# Altium schematic symbol library Capacitors.SchLib: 17 symbols
Pins are listed as number, name and electrical type; pins without a type are passive.

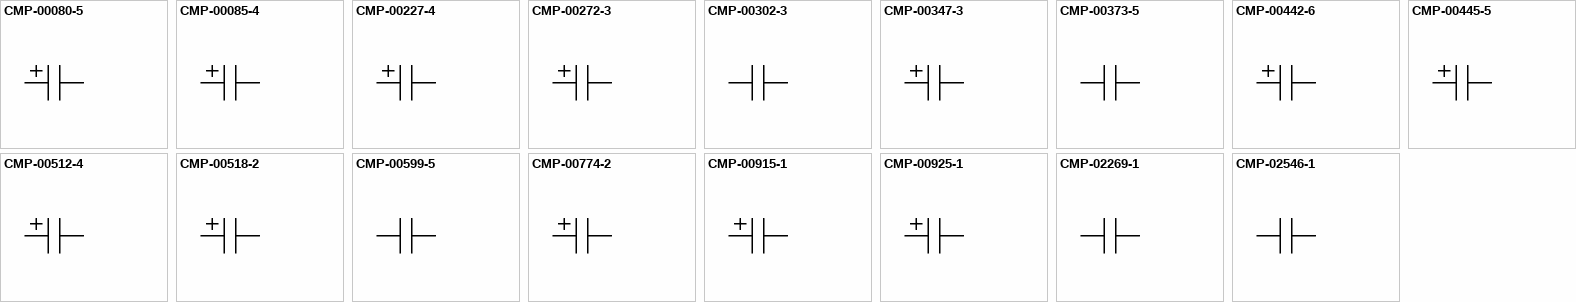
[diagram p0: symbols CMP-00080-5 to CMP-02546-1]

## CMP-00080-5
designator C?, comment C475
C 4.7uF x 16V; Component Name: Tantalum Capacitor, SMD, Case A, 4.7uF 16V; Value: 4.7uF 16V; Package: Case A; Marking: C475
footprint Case A
pins: 1, 2

## CMP-00085-4
designator C?, comment V475
C 4.7uF x 35V; Component Name: Tantalum Capacitor, SMD, Case B, 4.7uF 35V; Value: 4.7uF 35V; Package: Case B; Marking: V475
footprint Case B
pins: 1, 2

## CMP-00227-4
designator C?, comment 47uF x 50V
C 47uF x 50V; Component Name: Capacitor electrolytic, 47uF x 50V, 6x11x2,5; Package: 6x11x2,5; Marking: 47uF x 50V; Value: 47uF x 50V
footprint 6x11x2.5
pins: 1, 2

## CMP-00272-3
designator C?, comment 475J
C 4.7uF x 6.3V; Component Name: Tantalum Capacitor, SMD, Case R, 4.7uF 6.3V; Value: 4.7uF 6.3V; Package: Case R; Marking: 475J
footprint Case R
pins: 1, 2

## CMP-00302-3
designator C?
PAD; Component Name: PAD; Package: 0603
footprint Cap 0603
pins: 1, 2

## CMP-00347-3
designator C?, comment 22 25V
C 22uF x 25V; Component Name: Tantalum Capacitor, SMD, Case D, 22uF 25V; Value: 22uF 25V; Package: Case D; Marking: 22 25V
footprint Case D
pins: 1, 2

## CMP-00373-5
designator C?, comment PAD
Component Name: PAD; Package: 0805; Marking: PAD; Value: PAD; Voltage: PAD
pins: 1, 2

## CMP-00442-6
designator C?, comment 22uF x 100V
C 22uF x 100V; Component Name: Capacitor electrolytic, 22uF x 100V, 8x12x3.5; Package: 8x12x3.5; Marking: 22uF x 100V; Value: 22uF x 100V
footprint CE 8x12x3.5
footprint CE 8x12x3.5 R
footprint CE 8x12x3.5 L
pins: 1, 2

## CMP-00445-5
designator C?, comment 10uF x 400V
C 10uF x 400V; Component Name: Capacitor electrolytic, 10uF x 400V, 13x21x5; Package: 13x21x5; Marking: 10uF x 400V; Value: 10uF x 400V
footprint 13x21x5
footprint 13x21x5 26mm
pins: 1, 2

## CMP-00512-4
designator C?, comment 10uF x 16V
C 10uF x 16V; Component Name: Capacitor electrolytic, 10uF x 16V, 5x11x2; Package: 5x11x2; Marking: 10uF x 16V; Value: 10uF x 16V
footprint 5x11x2
footprint CE 5x11 P
pins: 1, 2

## CMP-00518-2
designator C?, comment 10uF x 400V
C 10uF x 400V; Component Name: Capacitor electrolytic, 10uF x 400V, 12.5x16x5; Value: 10uF x 400V; Marking: 10uF x 400V; Package: 12.5x16x5
footprint CE 12.5x16
footprint CE 12.5x16 P
pins: 1, 2

## CMP-00599-5
designator C?, comment 334f
NO; Component Name: Ceramic Capacitor, SMD, 0603, X7R, 33000pF x 16V 10%; Value: 33000p; Voltage: 16V; Package: 0402; Marking: 334f
footprint Cap 0402
pins: 1, 2

## CMP-00774-2
designator C?, comment 470 16V
C 470uF x 16V; Component Name: Tantalum Capacitor, SMD, Case H, 470uF x 16V; Value: 470uF 16V; Package: Case H; Marking: 470 16V
footprint Case H
pins: 1, 2

## CMP-00915-1
designator C?, comment 107
100uF x 25V; Value: 100uF 25V; Component Name: Tantalum Capacitor, SMD, Case X, 100uF 25V; Marking: 107; Package: Case X
footprint Case X
pins: 1, 2

## CMP-00925-1
designator C?, comment 1u 50V
C 1uF x 50V; Value: 1uF 50V; Component Name: Tantalum Capacitor, SMD, Case C, 1uF 50V; Marking: 1u 50V; Package: Case C
footprint Case C
pins: 1, 2

## CMP-02269-1
designator C?, comment 1n0
1n0 x 16V; Component Name: Ceramic Capacitor, SMD, 1206, X7R, 1000p x 16V; Marking: 1n0; Package: 1206; Value: 1n0; Voltage: 16V
footprint Cap 1206
pins: 1, 2

## CMP-02546-1
designator C?, comment 1n0
1n0 x 50V; Component Name: Ceramic Capacitor, SMD, 1812, X7R, 1000p x 50V; Marking: 1n0; Package: 1812; Value: 1n0; Voltage: 50V
footprint C1812
pins: 1, 2